# Altium schematic symbol library Digital to Analogue Converter.SchLib: 3 symbols
Pins are listed as number, name and electrical type; pins without a type are passive.

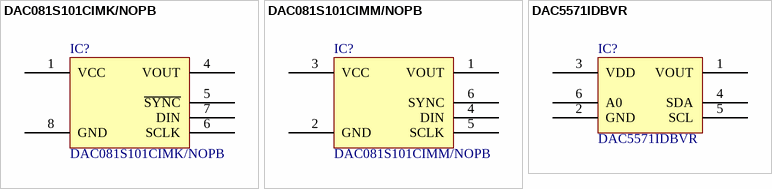
[diagram p0: symbols DAC081S101CIMK/NOPB to DAC5571IDBVR]

## DAC081S101CIMK/NOPB
designator IC?
CONV D/A 8BIT MICRO PWR TSOT23-6; Manufacturer: Texas Instruments; Number of Bits: 8; Data Interface: SPI, DSP; Number of Converters: 1; Part Number: DAC081S101CIMK/NOPB; PartId: 7869; Supplier 1: Digi-Key; Supplier Part Number 1: DAC081S101CIMK/NOPBTR-ND; ComponentLink1Description: Datasheet; ComponentLink1URL: http://www.ti.com/lit/ds/symlink/dac081s101.pdf; ComponentLink2Description: Digi-Key Listing; ComponentLink2URL: http://www.digikey.ca/product-detail/en/DAC081S101CIMK%2FNOPB/DAC081S101CIMK%2FNOPBTR-ND/953347; Price: 0.8933; Type: 1 Voltage; Device Package: SOT-23-6 Thin, TSOT-23-6; Operating Temperature: -40C ~ 105C
footprint TI SOT-23-6 DDC
pins: 1 VCC, 4 VOUT, 5 ~{SYNC}, 6 SCLK, 7 DIN, 8 GND

## DAC081S101CIMM/NOPB
designator IC?
CONV D/A 8BIT MICROPWR 8VSSOP; Manufacturer: Texas Instruments; Number of Bits: 8; Data Interface: DSP, MICROWIRE, QSPI, Serial, SPI; Number of Converters: 1; Part Number: DAC081S101CIMM/NOPB; PartId: 7868; Supplier 1: Digi-Key; Supplier Part Number 1: DAC081S101CIMM/NOPBTR-ND; ComponentLink1Description: Datasheet; ComponentLink1URL: http://www.ti.com/lit/ds/symlink/dac081s101.pdf; ComponentLink2Description: Digi-Key Listing; ComponentLink2URL: http://www.digikey.ca/product-detail/en/DAC081S101CIMM%2FNOPB/DAC081S101CIMM%2FNOPBTR-ND/953348; Price: 0.8933; Type: 1 Voltage, Unipolar; Device Package: 8-TSSOP, 8-MSOP (0.118", 3.00mm Width); Operating Temperature: -40C ~ 105C
footprint TI VSSOP-8 DGK
pins: 1 VOUT, 2 GND, 3 VCC, 4 DIN, 5 SCLK, 6 SYNC

## DAC5571IDBVR
designator IC?
8 BIT 12C SNGL CHNL DAC SOT23-6; Manufacturer: Texas Instruments; Number of Bits: 8; Data Interface: IC; Number of Converters: 1; Part Number: DAC5571IDBVR; PartId: 9702; Supplier 1: Digi-Key; Supplier Part Number 1: 296-38918-2-ND; ComponentLink1Description: Datasheet; ComponentLink1URL: http://www.ti.com/lit/ds/symlink/dac5571.pdf; ComponentLink2Description: Digi-Key Listing; ComponentLink2URL: http://www.digikey.com/product-detail/en/texas-instruments/DAC5571IDBVR/296-38918-2-ND/1509001; Price: 1.0125; Type: 1 Voltage; Device Package: SOT-23-6; Operating Temperature: -40C ~ 105C
footprint TI SOT-23-6 DBV
pins: 1 VOUT, 2 GND, 3 VDD, 4 SDA, 5 SCL, 6 A0